# EAGLE library part MICROFIT_43045_1400 (library IntegratedLib)
Microfit header 14 posicoes (14x02)
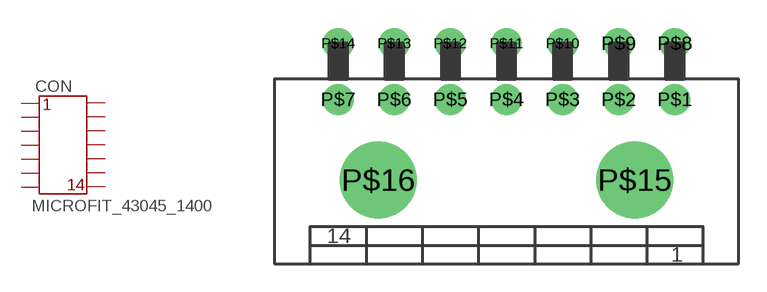
[diagram p34: symbol with the pads of MICROFIT_14CKTS; footprint MICROFIT_14CKTS]

Designator prefix CON

## MICROFIT_43045_1400 (FABRICANTE: MOLEX; PARTNUMBER: 43045-1400; TIPO: CONECTOR)  [MICROFIT_14CKTS]
P$1  P$1
P$2  P$2
P$3  P$3
P$4  P$4
P$5  P$5
P$6  P$6
P$7  P$7
P$8  P$8
P$9  P$9
P$10  P$10
P$11  P$11
P$12  P$12
P$13  P$13
P$14  P$14

## Footprint MICROFIT_14CKTS (pad centres in mm)
drill 1.1: P$1 9,3.58; P$2 6,3.58; P$3 3,3.58; P$4 0,3.58; P$5 -3,3.58; P$6 -6,3.58; P$7 -9,3.58; P$8 9,6.58; P$9 6,6.58; P$10 3,6.58; P$11 0,6.58; P$12 -3,6.58; P$13 -6,6.58; P$14 -9,6.58
drill 3.1: P$15 6.85,-0.74; P$16 -6.85,-0.74